# Altium footprint library RUF-Dispositivos-Grales.PcbLib: 97 footprints (part 6 of 7)
Each footprint in its own frame and in the unit in brackets; x right, y up, seen from the top. Pads: shape width x height; smd on the part's side, far side on the other; paste and mask are expansions set on the pad; w line width, h text height; cw(c..) or ccw(c..) is an arc to the next point about the centre after c.
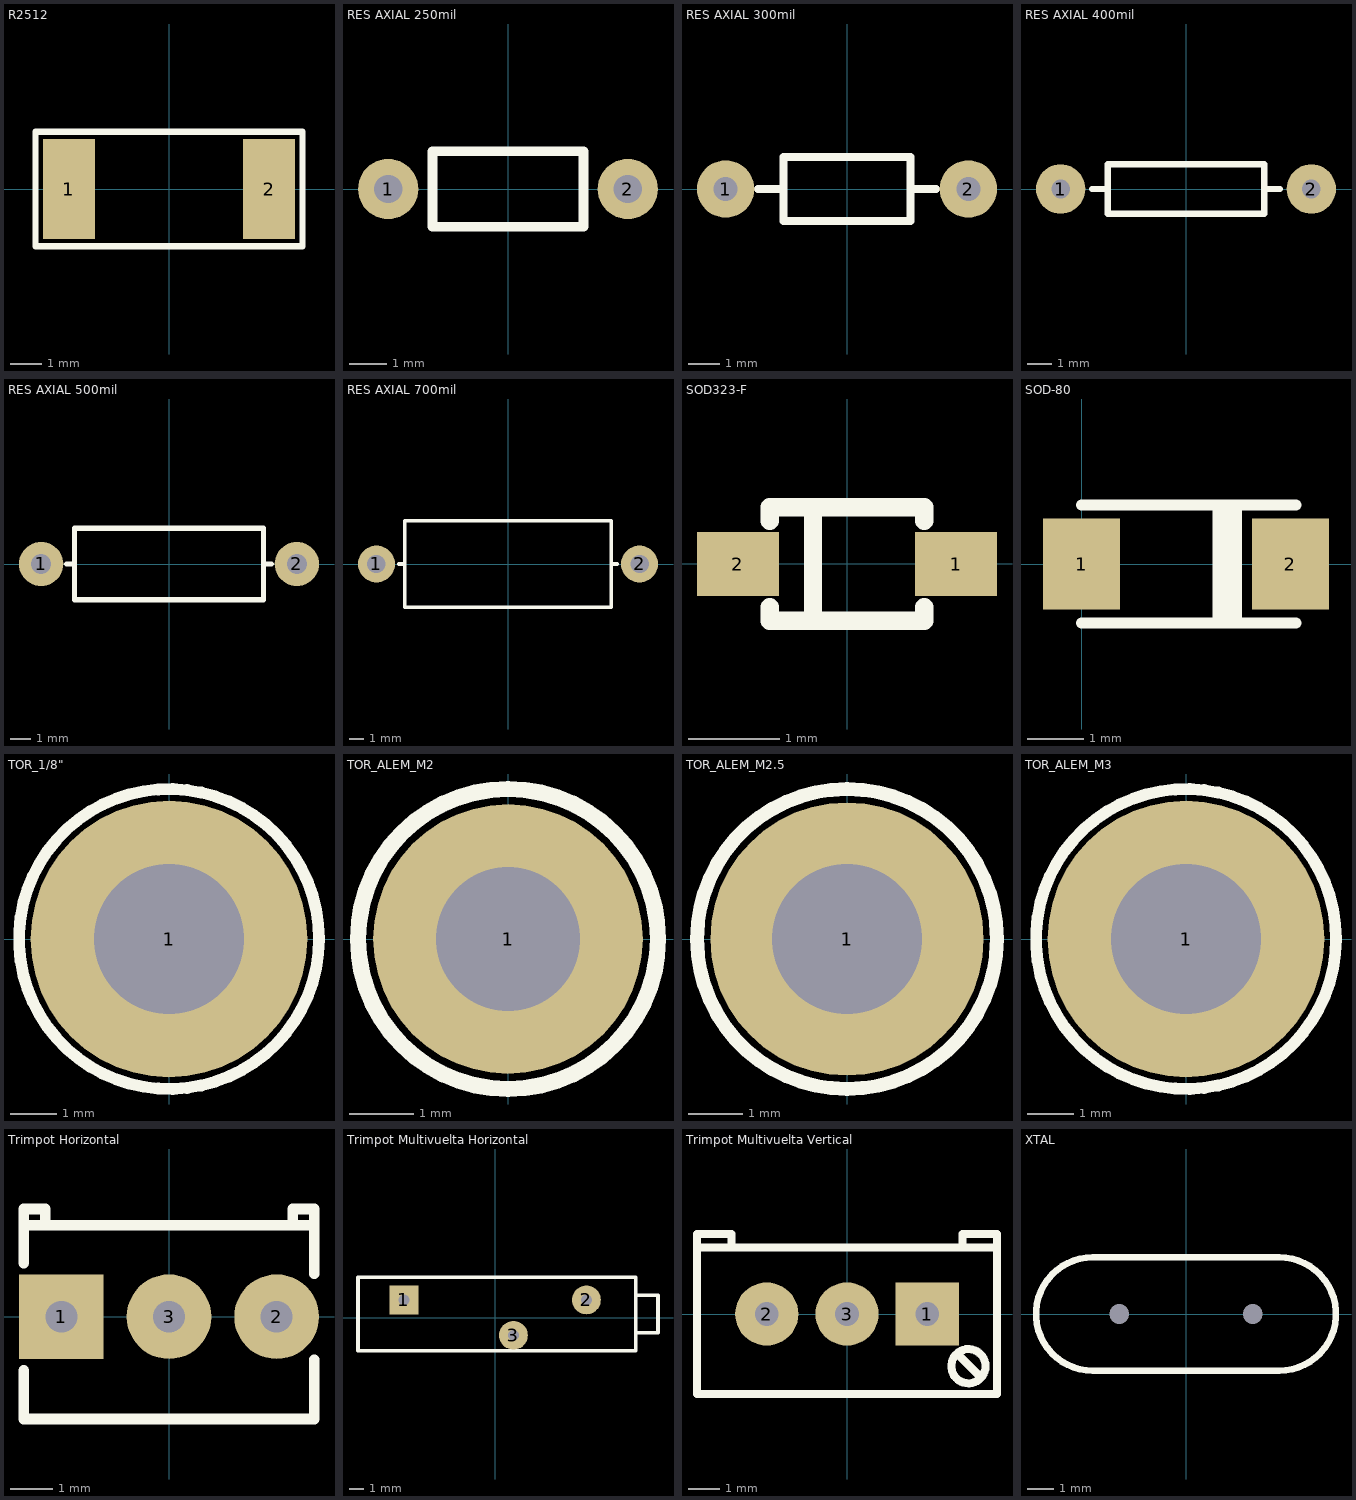
[diagram p5: the footprints below, top view; thin cyan lines are the x and y axes]

## R2512 [mil]
pads (2):
  rect 65x125 smd: 1(-125.5,0) 2(125.5,0)
Top Overlay:
  lines w7.87: -167.32,-71.85 -167.32,71.85 167.32,71.85 167.32,-71.85 -167.32,-71.85
3D body: height 27.56, standoff 0, extent -125.98,-62.99 125.99,63

## RES AXIAL 250mil [mm]
height 1.8
pads (2):
  round 1.6 hole 0.75: 1(-3.175,0) 2(3.175,0)
Top Overlay:
  lines w0.254: -2,-1 2,-1 2,1 -2,1 -2,0.5 -2,0 -2,-1
3D body: height 2.15, standoff -0.9, extent -3.55,-1.05 3.55,1.05

## RES AXIAL 300mil [mm]
height 2.35
pads (2):
  round 1.8 hole 0.75: 1(-3.81,0) 2(3.81,0)
Top Overlay:
  lines w0.254: -2.794,0 -2,0 ; 2,0 2.794,0 ; -2,0 -2,0.5 -2,1 2,1 2,-1 -2,-1 -2,0
3D body: height 2.15, standoff -6.4, extent -4.07,-1.05 4.07,1.05

## RES AXIAL 400mil [mm]
height 2.35
pads (2):
  round 2 hole 0.75: 1(-5.08,0) 2(5.08,0)
Top Overlay:
  lines w0.254: -3.81,0 -3.175,0 ; 3.175,0 3.81,0 ; -3.175,-1 3.175,-1 3.175,1 -3.175,1 -3.175,-1
3D body: height 2.7, standoff -6.1, extent -5.406,-1.3 5.406,1.3

## RES AXIAL 500mil [mm]
height 2.35
pads (2):
  round 2.2 hole 1: 1(-6.35,0) 2(6.35,0)
Top Overlay:
  lines w0.254: -5.08,0 -4.699,0 ; 4.699,0 5.08,0 ; -4.699,-1.778 -4.699,1.778 4.699,1.778 4.699,-1.778 -4.699,-1.778
3D body: height 3.88, standoff -5.5, extent -6.725,-1.875 6.725,1.875

## RES AXIAL 700mil [mm]
height 2.35
pads (2):
  round 2.5 hole 1.25: 1(-8.89,0) 2(8.89,0)
Top Overlay:
  lines w0.254: -7.366,0 -6.985,0 ; 6.985,0 7.366,0 ; -6.985,-2.921 -6.985,2.921 6.985,2.921 6.985,-2.921 -6.985,-2.921
3D body: height 6.1, standoff -4.4, extent -9.29,-2.996 9.29,2.996

## SOD323-F [mm]
pads (2):
  rect 0.9x0.7 smd: 1(1.2,0) 2(-1.2,0)
Top Overlay:
  lines w0.2: -0.85,-0.475 -0.85,-0.625 0.85,-0.625 0.85,-0.475 ; -0.85,0.475 -0.85,0.625 0.85,0.625 0.85,0.475 ; -0.375,-0.625 -0.375,0.625
3D body: height 1.07, standoff -0.03, extent -1.15,-0.6 1.15,0.6

## SOD-80 [mm]
pads (2):
  rect 1.37x1.62 smd: 1(0,0) 2(3.71,0)
Top Overlay:
  rectangle: 2.325,-1.05 2.85,1.05
  lines w0.2: 0,-1.05 3.81,-1.05 ; 0,1.05 3.81,1.05
3D body: height 1.5, standoff 0, extent 0.105,-0.713 3.705,0.787

## TOR_1/8" [mm]
pads (1):
  round 6 / inner round 0 / far side round 0 hole 3.25: 1(0,0)
Top Overlay:
  circle w0.254: c0,0 r3.252
Bottom Overlay:
  circle w0.254: c0,0 r1.783
3D body: height 2.1, standoff -4.9, extent -2.749,-2.749 2.749,2.749

## TOR_ALEM_M2 [mm]
pads (1):
  round 4.2 / inner round 0 / far side round 0 hole 2.25: 1(0,0)
Top Overlay:
  circle w0.254: c0,0 r2.337
Bottom Overlay:
  circle w0.254: c0,0 r1.27
3D body: height 2.15, standoff -4.85, extent -1.9,-1.9 1.9,1.9

## TOR_ALEM_M2.5 [mm]
pads (1):
  round 5 / inner round 0 / far side round 0 hole 2.75: 1(0,0)
Top Overlay:
  circle w0.254: c0,0 r2.743
Bottom Overlay:
  circle w0.254: c0,0 r1.524
3D body: height 2.65, standoff -4.85, extent -2.25,-2.25 2.25,2.25

## TOR_ALEM_M3 [mm]
pads (1):
  round 6 / inner round 0 / far side round 0 hole 3.25: 1(0,0)
Top Overlay:
  circle w0.254: c0,0 r3.252
Bottom Overlay:
  circle w0.254: c0,0 r1.783
3D body: height 3.15, standoff -4.85, extent -2.75,-2.75 2.75,2.75

## Trimpot Horizontal [mm] "Preset Multivuelta de ajuste vertical"
height 11.684
pads (3):
  rect 2x2 hole 0.75: 1(-2.54,0)
  round 2 hole 0.75: 2(2.54,0) 3(0,0)
Top Overlay:
  lines w0.254: -3.429,-1.27 -3.429,-2.413 3.429,-2.413 3.429,-1.016 ; -3.429,1.27 -3.429,2.159 ; -2.921,2.159 -2.921,2.54 -3.429,2.54 -3.429,2.159 ; 2.921,2.159 2.921,2.54 3.429,2.54 3.429,2.159 ; 3.429,1.016 3.429,2.159 ; -3.429,2.159 3.429,2.159
3D body: height 7.1, standoff -5.4, extent -3.3,-2.287 3.3,2.413

## Trimpot Multivuelta Horizontal [mm]
pads (3):
  rect 2x2 hole 0.75: 1(-6.35,1.23)
  round 2 hole 0.75: 2(6.35,1.23) 3(1.27,-1.23)
Top Overlay:
  lines w0.254: 9.779,-1.041 11.329,-1.041 11.329,1.549 9.779,1.549 ; -9.55,-2.311 9.779,-2.311 9.779,2.819 -9.55,2.819 -9.55,-2.311
3D body: height 6.17, standoff -5.38, extent -9.398,-2.159 11.176,2.667

## Trimpot Multivuelta Vertical [mm] "Preset Multivuelta de ajuste vertical"
height 11.684
pads (3):
  rect 2x2 hole 0.75: 1(2.54,0)
  round 2 hole 0.75: 2(-2.54,0) 3(0,0)
Top Overlay:
  circle w0.254: c3.845,-1.652 r0.543
  lines w0.254: -4.75,2.1 4.75,2.1 ; -3.658,2.1 -3.658,2.54 -4.75,2.54 -4.75,-2.54 4.75,-2.54 4.75,2.54 3.658,2.54 3.658,2.1 ; 3.531,-1.295 4.229,-1.994
3D body: height 12.06, standoff -5.44, extent -4.6,-2.413 4.6,2.387

## XTAL [mm]
pads (2):
  round 0 / inner round 0 / far side round 1.5 hole 0.75: 1(-2.54,0) 2(2.54,0)
Top Overlay:
  lines w0.254: -3.556,-2.159 cw(c-3.556,0) -3.556,2.159 3.556,2.159 cw(c3.556,0) 3.556,-2.159 -3.556,-2.159
3D body: height 12.9, standoff -2.54, extent -5.254,-2.032 5.254,1.976